# Altium footprint library Portable power supply.PcbLib: 40 footprints (part 1 of 3)
Each footprint in its own frame and in the unit in brackets; x right, y up, seen from the top. Pads: shape width x height; smd on the part's side, far side on the other; paste and mask are expansions set on the pad; w line width, h text height; cw(c..) or ccw(c..) is an arc to the next point about the centre after c.
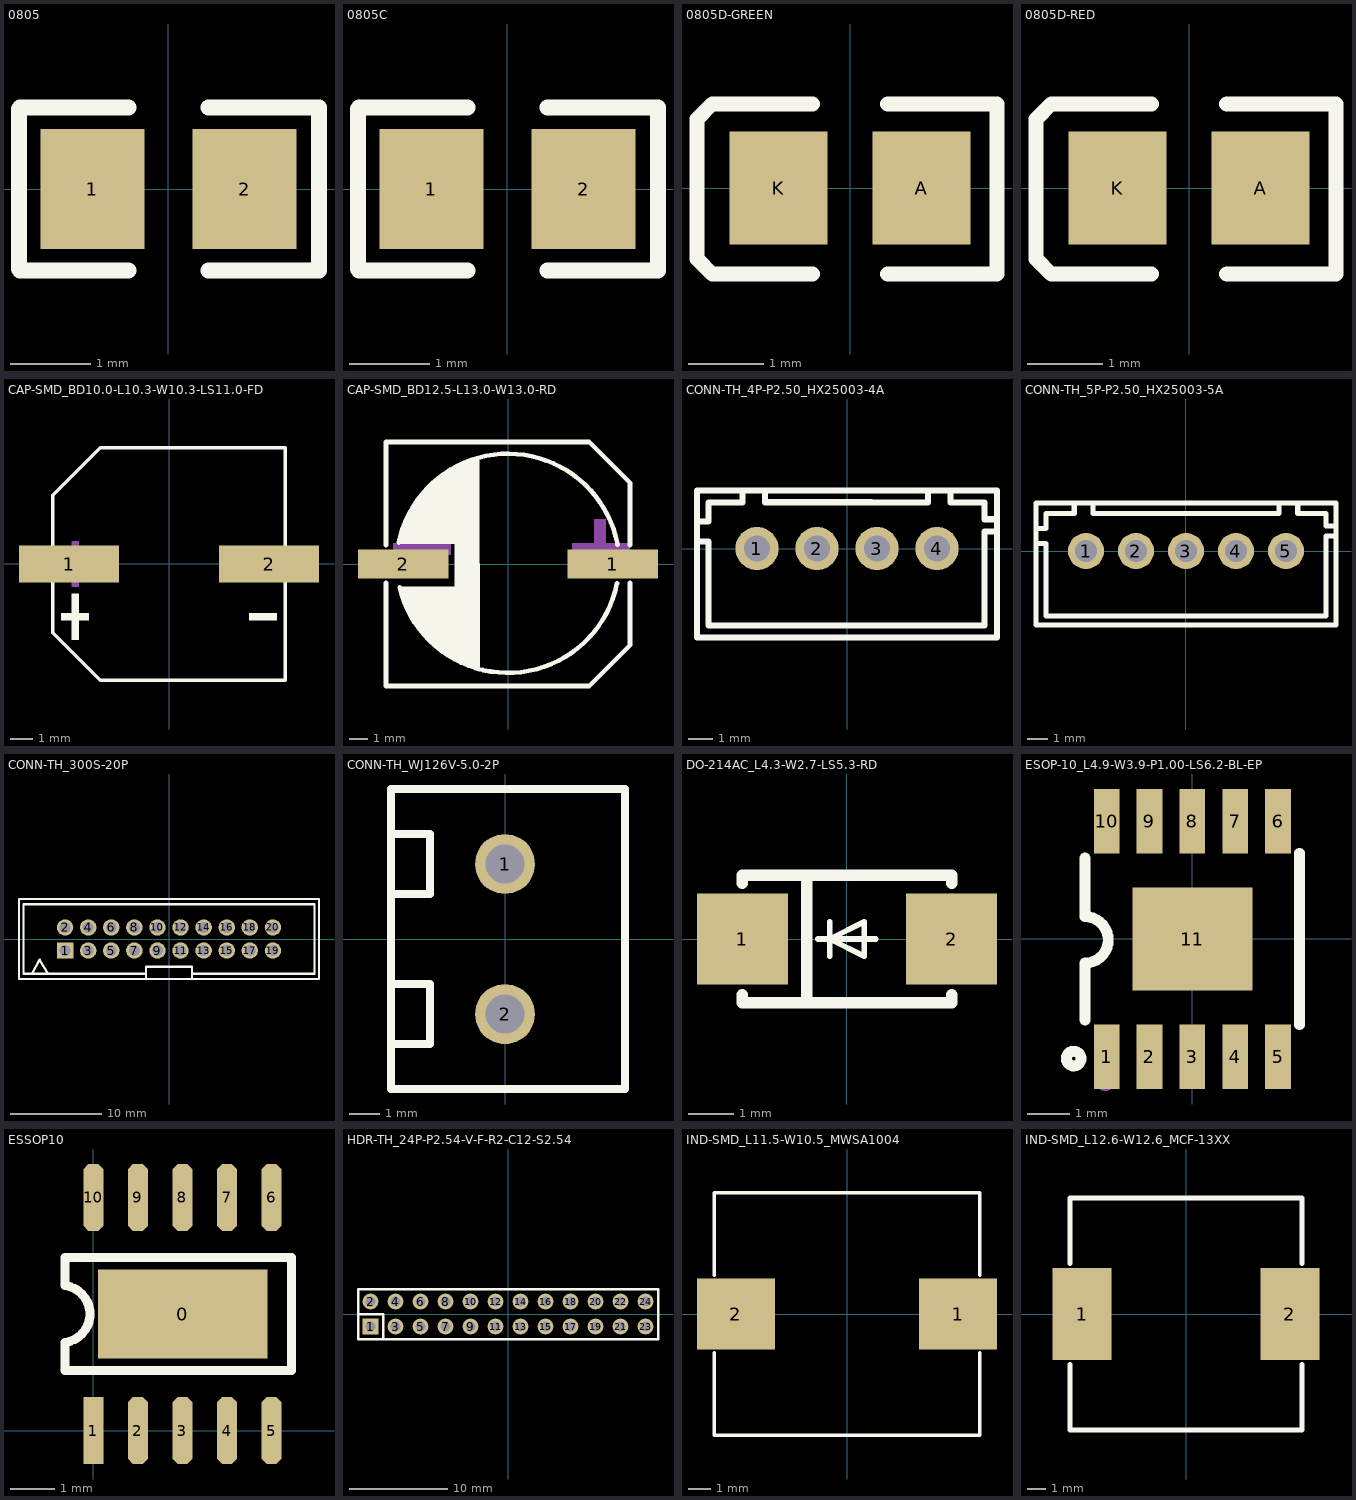
[diagram p0: the footprints below, top view; thin cyan lines are the x and y axes]

## 0805 [mm]
pads (2):
  rect 1.3x1.5 smd: 1(-0.95,0) 2(0.95,0)
Top Overlay:
  lines w0.2: -1.867,-1 -1.867,1 ; -1.854,-1.016 -0.5,-1.016 ; -1.854,1.016 -0.5,1.016 ; 0.5,-1.016 1.88,-1.016 ; 0.5,1.016 1.88,1.016 ; 1.88,-1 1.88,1
3D body "RES0805.stp": height 0.5, standoff 0, extent -1,-0.63 1,0.62

## 0805C [mm]
pads (2):
  rect 1.3x1.5 smd: 1(-0.95,0) 2(0.95,0)
Top Overlay:
  lines w0.2: -1.867,-1 -1.867,1 ; -1.854,-1.016 -0.5,-1.016 ; -1.854,1.016 -0.5,1.016 ; 0.5,-1.016 1.88,-1.016 ; 0.5,1.016 1.88,1.016 ; 1.88,-1 1.88,1
3D body "CAP0805.stp": height 0.78, standoff 0, extent -1,-0.625 1,0.625

## 0805D-GREEN [mm]
pads (2):
  rect 1.3x1.5 smd: A(0.95,0) K(-0.95,0)
Top Overlay:
  lines w0.2: -0.5,-1.143 -1.829,-1.143 -2.032,-0.94 -2.032,0.914 -1.829,1.118 -0.5,1.118 ; 0.5,-1.143 1.95,-1.143 1.95,1.118 0.5,1.118
3D body "User Library-led_0805.step": height 1.1, standoff 0, extent -1.01,-0.625 1.01,0.625

## 0805D-RED [mm]
pads (2):
  rect 1.3x1.5 smd: A(0.95,0) K(-0.95,0)
Top Overlay:
  lines w0.2: -0.5,-1.143 -1.829,-1.143 -2.032,-0.94 -2.032,0.914 -1.829,1.118 -0.5,1.118 ; 0.5,-1.143 1.95,-1.143 1.95,1.118 0.5,1.118
3D body "LED-0805-RED.STEP": height 0.9, standoff -0.01, extent -1.05,-0.675 1.05,0.675

## CAP-SMD_BD10.0-L10.3-W10.3-LS11.0-FD [mm]
pads (2):
  rect 4.5x1.65 smd: 1(-4.5,0) 2(4.5,0)
Top Overlay:
  region: 4.841,-2.215 4.841,-2.524 3.605,-2.524 3.605,-2.215
  region: -4.841,-2.215 -4.841,-2.524 -3.605,-2.524 -3.605,-2.215
  region: -4.378,-1.339 -4.378,-3.399 -4.069,-3.399 -4.069,-1.339
  lines w0.152: -5.226,-0.852 -5.226,-3.09 -3.09,-5.226 5.226,-5.226 5.226,-0.852 ; -5.226,0.852 -5.226,3.09 -3.09,5.226 5.226,5.226 5.226,0.852
Mechanical 15:
  region: 4.841,0.154 4.841,-0.155 3.605,-0.155 3.605,0.154
  region: -4.841,0.154 -4.841,-0.155 -3.605,-0.155 -3.605,0.154
  region: -4.378,1.03 -4.378,-1.03 -4.069,-1.03 -4.069,1.03

## CAP-SMD_BD12.5-L13.0-W13.0-RD [mm]
pads (2):
  rect 5x1.6 smd: 1(5.8,0) 2(-5.8,0)
Top Overlay:
  region: -1.57,-5.92 -1.59,5.97 -2.25,5.72 -2.91,5.49 -3.42,5.16 -3.75,4.88 -4.24,4.55 -4.62,4.14 -5.07,3.56 -5.3,3.02 -5.58,2.62 -5.71,2.16 -5.89,1.74 -6,1.42 -6.04,1.16 -6.04,1.11 -2.95,1.12 -2.95,-0.05 -2.95,-1.23 -6,-1.25 -5.85,-1.83 -5.64,-2.45 -5.29,-3.13 -4.95,-3.7 -4.57,-4.12 -4.27,-4.45 -3.84,-4.82 -3.16,-5.25 -2.15,-5.75 -1.58,-5.95
  lines w0.254: -6.75,-1.031 -6.75,-6.75 4.5,-6.75 6.75,-4.5 6.75,-1.031 ; -6.75,1.031 -6.75,6.75 4.5,6.75 6.75,4.5 6.75,1.031 ; -6.044,1.191 cw(c-0.003,-0.068) 6.06,1.08 ; -6,-1.28 ccw(c-0.007,0.133) 6.03,-1.08
Mechanical 15:
  region: -6.35,1.143 -3.175,1.143 -3.175,0.508 -6.35,0.508
  region: 4.763,-0.699 4.763,2.476 5.397,2.476 5.397,-0.699
  region: 3.556,1.143 6.731,1.143 6.731,0.508 3.556,0.508

## CONN-TH_4P-P2.50_HX25003-4A [mm]
pads (4):
  round 1.8 hole 1.1: 1(-3.75,0) 2(-1.25,0) 3(1.25,0) 4(3.75,0)
Top Overlay:
  lines w0.254: -6.25,1.13 -5.775,1.13 -5.775,1.925 -4.361,1.925 -4.361,2.375 ; -6.25,2.4 -6.25,-3.7 6.25,-3.7 6.25,2.4 ; -6.25,2.41 6.24,2.41 ; -6.24,0.3 -5.775,0.3 -5.775,-3.2 5.726,-3.2 5.726,0.711 6.226,0.711 ; -3.424,2.376 -3.424,1.926 1.019,1.926 0.976,1.925 ; 1.019,1.925 3.375,1.925 3.375,2.375 ; 4.31,1.926 4.31,2.374 ; 4.314,1.925 5.726,1.925 5.726,1.219 6.226,1.219

## CONN-TH_5P-P2.50_HX25003-5A [mm]
pads (5):
  round 1.8 hole 1.1: 1(-5,0) 2(-2.5,0) 3(0,0) 4(2.5,0) 5(5,0)
Top Overlay:
  lines w0.254: -7.5,-2.499 -7.5,0.376 -7,0.376 -7,-2.499 -7,-3.251 7,-3.251 7,-2.428 7,0.749 7.501,0.749 7.501,-2.428 ; -7.5,-1.687 -7.5,1.133 -7,1.125 -7,1.875 -5.588,1.875 -5.588,2.324 ; -4.65,2.326 -4.65,1.876 2.293,1.876 2.25,1.875 ; 2.293,1.875 4.649,1.875 4.649,2.325 ; 5.586,1.877 7,1.877 7,1.25 7.5,1.239 7.501,-1.582 ; 5.587,1.876 5.587,2.325 ; -7.5,-3.7 7.5,-3.7 7.5,2.4 -7.5,2.4 -7.5,-3.7

## CONN-TH_300S-20P [mm]
pads (20):
  rect 1.8x1.8 hole 1.2: 1(-11.43,-1.27)
  round 1.8 hole 1.2: 2(-11.43,1.27) 3(-8.89,-1.27) 4(-8.89,1.27) 5(-6.35,-1.27) 6(-6.35,1.27) 7(-3.81,-1.27) 8(-3.81,1.27) 9(-1.27,-1.27) 10(-1.27,1.27) 11(1.27,-1.27) 12(1.27,1.27) 13(3.81,-1.27) 14(3.81,1.27) 15(6.35,-1.27) 16(6.35,1.27) 17(8.89,-1.27) 18(8.89,1.27) 19(11.43,-1.27) 20(11.43,1.27)
Top Overlay:
  lines w0.254: -15.07,-3.821 -14.224,-2.286 -13.292,-3.821 ; -2.54,-4.318 -2.54,-3.048 2.54,-3.048 2.54,-4.318 ; -2.54,-3.81 -16.002,-3.81 -16.002,3.81 16.002,3.81 16.002,-3.81 2.54,-3.81 ; -16.5,-4.4 -16.5,4.4 16.5,4.4 16.5,-4.4 -16.5,-4.4

## CONN-TH_WJ126V-5.0-2P [mm]
pads (2):
  round 2 hole 1.3: 1(0,2.501) 2(0,-2.501)
Top Overlay:
  lines w0.254: -3.8,-3.499 -2.5,-3.499 -2.5,-1.499 -3.8,-1.499 ; -3.8,1.501 -2.5,1.501 -2.5,3.501 -3.8,3.501 ; -3.8,-4.999 0,-4.999 4,-4.999 4,5.001 0,5.001 -3.8,5.001 -3.8,-4.999

## DO-214AC_L4.3-W2.7-LS5.3-RD [mm]
pads (2):
  rect 2x2 smd: 1(-2.3,0) 2(2.3,0)
Top Overlay:
  lines w0.127: -0.635,0 0.635,0 ; -0.381,-0.381 -0.381,0 ; -0.381,0.381 -0.381,0 ; -0.381,0 0.381,-0.381 0.381,0 0.381,0.381 -0.381,0
  lines w0.254: -2.3,-1.231 -2.3,-1.4 2.3,-1.4 2.3,-1.231 ; -2.3,1.231 -2.3,1.4 2.3,1.4 2.3,1.231 ; -0.889,-1.4 -0.889,1.4
Mechanical 15:
  region: -2.98,-0.157 -2.983,-0.14 -2.983,0.076 -1.619,0.074 -1.61,0.053 -1.61,-0.164
  region: 2.281,0.447 2.281,-0.425 2.283,-0.427 2.39,-0.427 2.395,-0.422 2.395,0.447 2.39,0.452 2.273,0.452
  region: 2.995,0.028 1.617,0.028 1.617,0.136 1.72,0.142 2.987,0.14 2.991,0.144 2.991,0.032 2.993,0.03

## ESOP-10_L4.9-W3.9-P1.00-LS6.2-BL-EP [mm]
pads (11):
  rect 0.6x1.5 smd: 1(-2,-2.75) 2(-1,-2.75) 3(0,-2.75) 4(1,-2.75) 5(2,-2.75) 6(2,2.75) 7(1,2.75) 8(0,2.75) 9(-1,2.75) 10(-2,2.75)
  rect 2.8x2.4 smd: 11(0,0)
Top Overlay:
  circle w0.254: c-2.77,-2.79 r0.171
  lines w0.254: -2.5,-1.887 -2.5,-0.564 ; -2.501,-0.563 ccw(c-2.504,-0.022) -2.5,0.52 -2.5,1.887 ; 2.5,-2 2.5,2
Mechanical 15:
  circle w0.2: c-2.03,-3.35 r0.1

## ESSOP10 [mm]
pads (11):
  rect 3.8x2 smd: 0(2.007,2.616)
  rect 0.45x1.5 smd: 1(0,0)
  oct 0.45x1.5 smd: 2(1,0) 3(2,0) 4(3,0) 5(4,0) 6(4,5.232) 7(3,5.232) 8(2,5.232) 9(1,5.232) 10(0,5.232)
Top Overlay:
  lines w0.203: -0.635,1.346 4.445,1.346 4.445,3.886 -0.635,3.886 -0.635,3.251 cw(c-0.714,2.616) -0.635,1.981 -0.635,1.346

## HDR-TH_24P-P2.54-V-F-R2-C12-S2.54 [mm]
pads (24):
  rect 1.6x1.6 hole 1.05: 1(-13.97,-1.27)
  round 1.6 hole 1.05: 2(-13.97,1.27) 3(-11.43,-1.27) 4(-11.43,1.27) 5(-8.89,-1.27) 6(-8.89,1.27) 7(-6.35,-1.27) 8(-6.35,1.27) 9(-3.81,-1.27) 10(-3.81,1.27) 11(-1.27,-1.27) 12(-1.27,1.27) 13(1.27,-1.27) 14(1.27,1.27) 15(3.81,-1.27) 16(3.81,1.27) 17(6.35,-1.27) 18(6.35,1.27) 19(8.89,-1.27) 20(8.89,1.27) 21(11.43,-1.27) 22(11.43,1.27) 23(13.97,-1.27) 24(13.97,1.27)
Top Overlay:
  lines w0.254: -15.24,0 -12.7,0 -12.7,-2.54 ; -15.24,-2.54 -15.24,2.54 15.24,2.54 15.24,-2.54 -15.24,-2.54

## IND-SMD_L11.5-W10.5_MWSA1004 [mm]
pads (2):
  rect 3.424x3.12 smd: 1(4.878,0) 2(-4.878,0)
Top Overlay:
  lines w0.152: -5.826,-1.712 -5.826,-5.326 5.826,-5.326 5.826,-1.712 ; -5.826,1.712 -5.826,5.326 5.826,5.326 5.826,1.712

## IND-SMD_L12.6-W12.6_MCF-13XX [mm]
pads (2):
  rect 3.2x5 smd: 1(-5.65,0) 2(5.65,0)
Top Overlay:
  lines w0.254: -6.3,-2.731 -6.3,-6.3 6.3,-6.3 6.3,-2.731 ; -6.3,2.731 -6.3,6.3 6.3,6.3 6.3,2.731